# Altium footprint library SC70-6.PcbLib: 1 footprints
Each footprint in its own frame and in the unit in brackets; x right, y up, seen from the top. Pads: shape width x height; smd on the part's side, far side on the other; paste and mask are expansions set on the pad; w line width, h text height; cw(c..) or ccw(c..) is an arc to the next point about the centre after c.
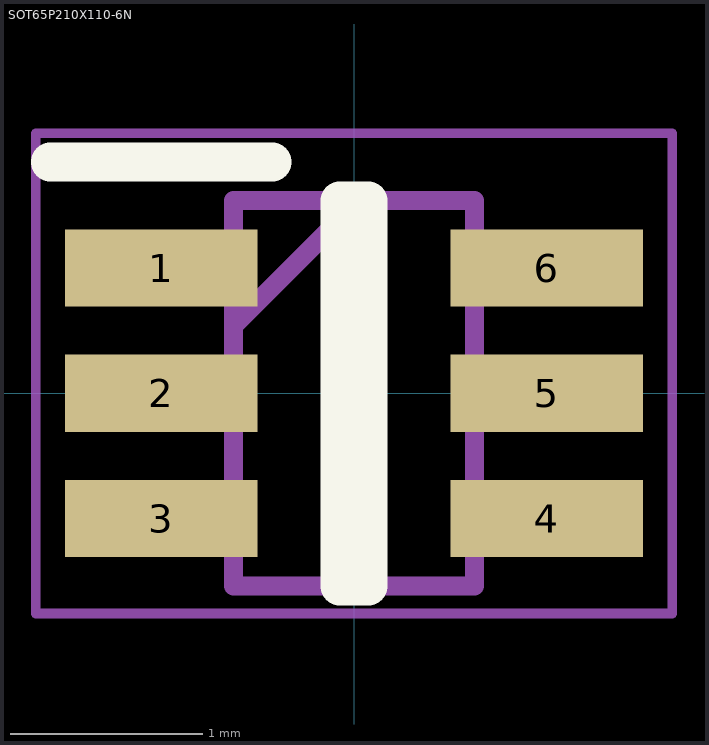
[diagram p0: the footprint, top view; thin cyan lines are the x and y axes]

## SOT65P210X110-6N [mm]
pads (6):
  rect 1x0.4 smd: 1(-1,0.65) 2(-1,0) 3(-1,-0.65) 4(1,-0.65) 5(1,0) 6(1,0.65)
Top Overlay:
  lines w0.2: -1.575,1.2 -0.425,1.2 ; -0.075,-1 -0.075,1 0.075,1 0.075,-1 -0.075,-1
Mechanical 13:
  lines w0.1: -0.625,0.35 0.025,1 ; -0.625,-1 -0.625,1 0.625,1 0.625,-1 -0.625,-1
Mechanical 15:
  lines w0.05: -1.651,-1.143 -1.651,1.35 1.651,1.35 1.651,-1.143 -1.651,-1.143
3D body "MASW-007221-TR3000.stp": height 1.1, standoff 0, extent -1.05,-1 1.05,1